# Altium schematic symbol library LED_DRIVER(3-5.5V, 600mA, PWM, 8-SOIC).SchLib: 1 symbol
Pins are listed as number, name and electrical type; pins without a type are passive.

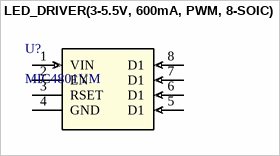
[diagram p0: symbol LED_DRIVER(3-5.5V, 600mA, PWM, 8-SOIC)]

## LED_DRIVER(3-5.5V, 600mA, PWM, 8-SOIC)
designator U?, comment MIC4801YM
LED_DRIVER(3-5.5V, 600mA, PWM, 8-SOIC); Manufacturer: Micrel / Microchip Technology; Manufacturer_PN: MIC4801YM; Package: SOIC-8; Datasheet: https://ww1.microchip.com/downloads/en/DeviceDoc/mic4801.pdf; Digikey_Link: https://www.digikey.it/en/products/detail/microchip-technology/MIC4801YM/2621443
footprint SOIC-8_M_MCL
pins: 1 VIN (in), 2 EN, 3 RSET, 4 GND (power), 5 D1 (in), 6 D1 (in), 7 D1 (in), 8 D1 (in)